# EAGLE library part ORG1411 (library org1411)
ORG1411 NanoHornet GPS module
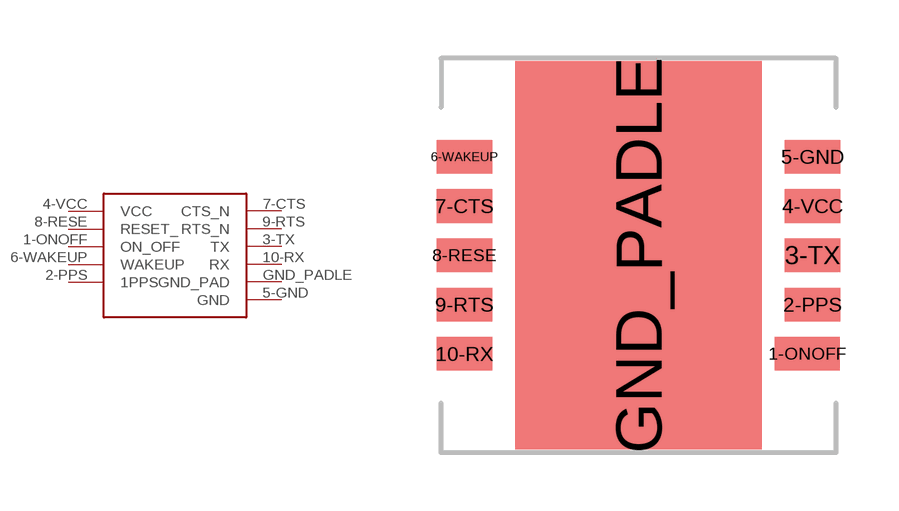
[diagram p0: symbol with the pads of LGA; footprint LGA]

Designator prefix -

## ORG1411  [LGA]
1-ONOFF  ON_OFF
2-PPS  1PPS
3-TX  TX
4-VCC  VCC
5-GND  GND
6-WAKEUP  WAKEUP
7-CTS  CTS_N
8-RESE  RESET_
9-RTS  RTS_N
10-RX  RX
GND_PADLE  GND_PAD

## Footprint LGA (pad centres in mm)
Footprint according datasheet dimensions
smd 1.676 x 0.864: 1-ONOFF 4.343,-2.54
smd 1.422 x 0.864: 2-PPS 4.483,-1.27; 3-TX 4.483,0; 4-VCC 4.483,1.27; 5-GND 4.483,2.54; 6-WAKEUP -4.483,2.54; 7-CTS -4.483,1.27; 8-RESE -4.483,0; 9-RTS -4.483,-1.27; 10-RX -4.483,-2.54
smd 6.35 x 10.008: GND_PADLE 0,0